# Altium footprint library 14AFR033E.PcbLib: 1 footprints
Each footprint in its own frame and in the unit in brackets; x right, y up, seen from the top. Pads: shape width x height; smd on the part's side, far side on the other; paste and mask are expansions set on the pad; w line width, h text height; cw(c..) or ccw(c..) is an arc to the next point about the centre after c.
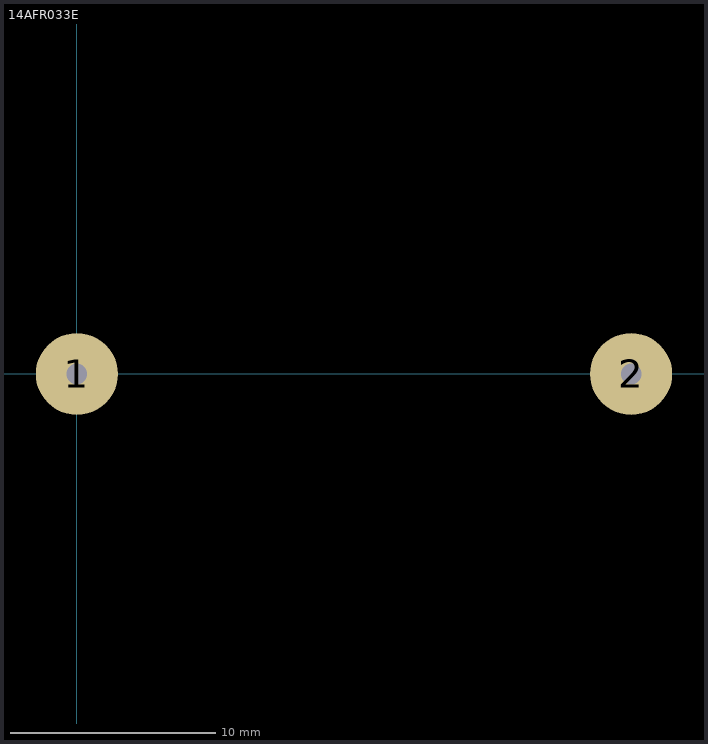
[diagram p0: the footprint, top view; thin cyan lines are the x and y axes]

## 14AFR033E [mm]
pads (2):
  round 4 hole 1: 1(0,0) 2(27,0)
3D body: height 8.49, standoff -1, extent -0.381,-3.422 27.413,3.55